# EAGLE library part 40PIN (library msp432Launchpad)
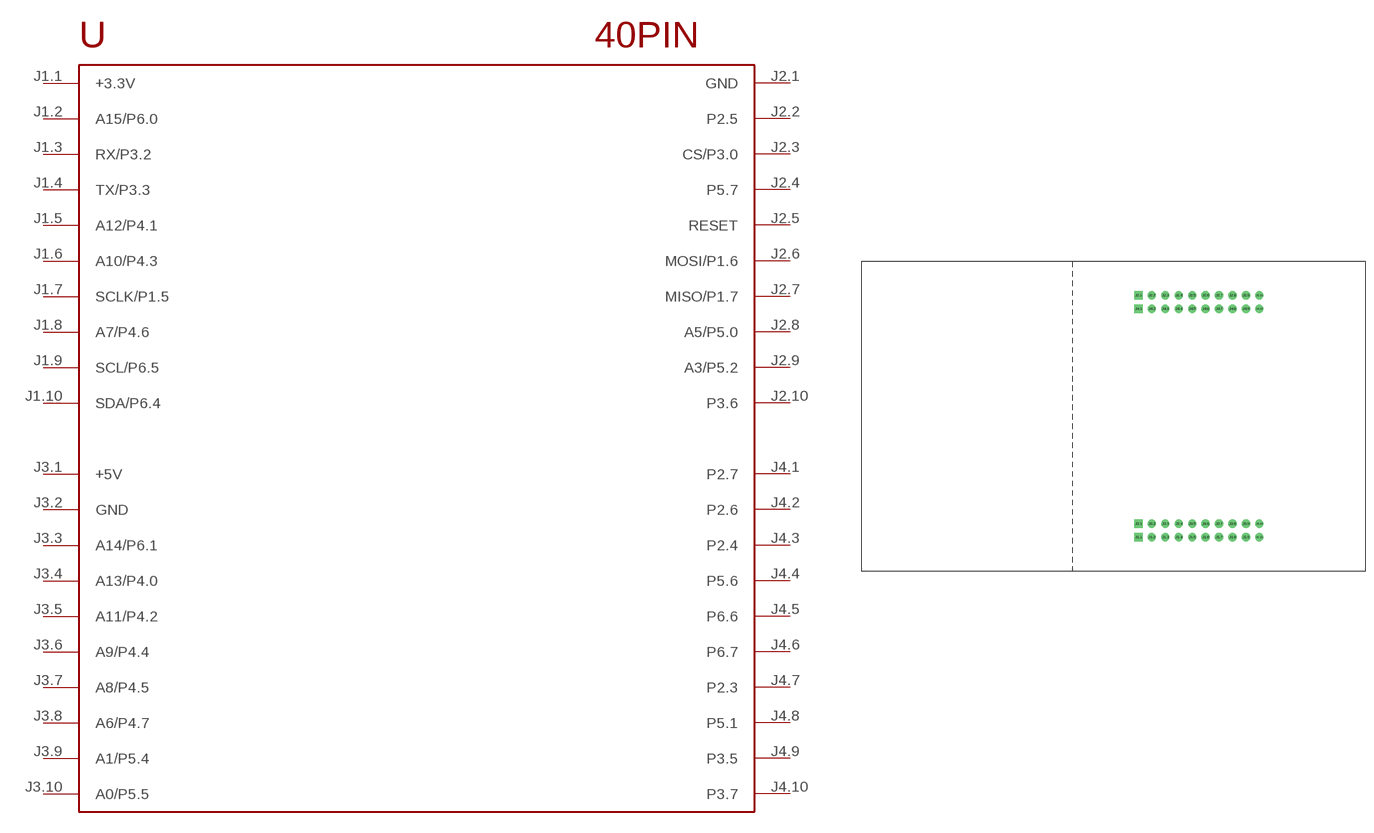
[diagram p0: symbol with the pads of 40PIN; footprint 40PIN]

Designator prefix -

## 40PIN  [40PIN]
J1.1  +3.3V
J1.2  A15/P6.0
J1.3  RX/P3.2
J1.4  TX/P3.3
J1.5  A12/P4.1
J1.6  A10/P4.3
J1.7  SCLK/P1.5
J1.8  A7/P4.6
J1.9  SCL/P6.5
J1.10  SDA/P6.4
J2.1  GND
J2.2  P2.5
J2.3  CS/P3.0
J2.4  P5.7
J2.5  RESET
J2.6  MOSI/P1.6
J2.7  MISO/P1.7
J2.8  A5/P5.0
J2.9  A3/P5.2
J2.10  P3.6
J3.1  +5V
J3.2  GND
J3.3  A14/P6.1
J3.4  A13/P4.0
J3.5  A11/P4.2
J3.6  A9/P4.4
J3.7  A8/P4.5
J3.8  A6/P4.7
J3.9  A1/P5.4
J3.10  A0/P5.5
J4.1  P2.7
J4.2  P2.6
J4.3  P2.4
J4.4  P5.6
J4.5  P6.6
J4.6  P6.7
J4.7  P2.3
J4.8  P5.1
J4.9  P3.5
J4.10  P3.7

## Footprint 40PIN (pad centres in mm)
drill 1.041 square: J1.1 -10.16,-22.86; J2.1 -10.16,22.86; J3.1 -10.16,-20.32; J4.1 -10.16,20.32
drill 1.041: J1.2 -7.62,-22.86; J1.3 -5.08,-22.86; J1.4 -2.54,-22.86; J1.5 0,-22.86; J1.6 2.54,-22.86; J1.7 5.08,-22.86; J1.8 7.62,-22.86; J1.9 10.16,-22.86; J1.10 12.7,-22.86; J2.2 -7.62,22.86; J2.3 -5.08,22.86; J2.4 -2.54,22.86; J2.5 0,22.86; J2.6 2.54,22.86; J2.7 5.08,22.86; J2.8 7.62,22.86; J2.9 10.16,22.86; J2.10 12.7,22.86; J3.2 -7.62,-20.32; J3.3 -5.08,-20.32; J3.4 -2.54,-20.32; J3.5 0,-20.32; J3.6 2.54,-20.32; J3.7 5.08,-20.32; J3.8 7.62,-20.32; J3.9 10.16,-20.32; J3.10 12.7,-20.32; J4.2 -7.62,20.32; J4.3 -5.08,20.32; J4.4 -2.54,20.32; J4.5 0,20.32; J4.6 2.54,20.32; J4.7 5.08,20.32; J4.8 7.62,20.32; J4.9 10.16,20.32; J4.10 12.7,20.32